# Altium footprint library WE-CMBH.PcbLib: 7 footprints
Each footprint in its own frame and in the unit in brackets; x right, y up, seen from the top. Pads: shape width x height; smd on the part's side, far side on the other; paste and mask are expansions set on the pad; w line width, h text height; cw(c..) or ccw(c..) is an arc to the next point about the centre after c.
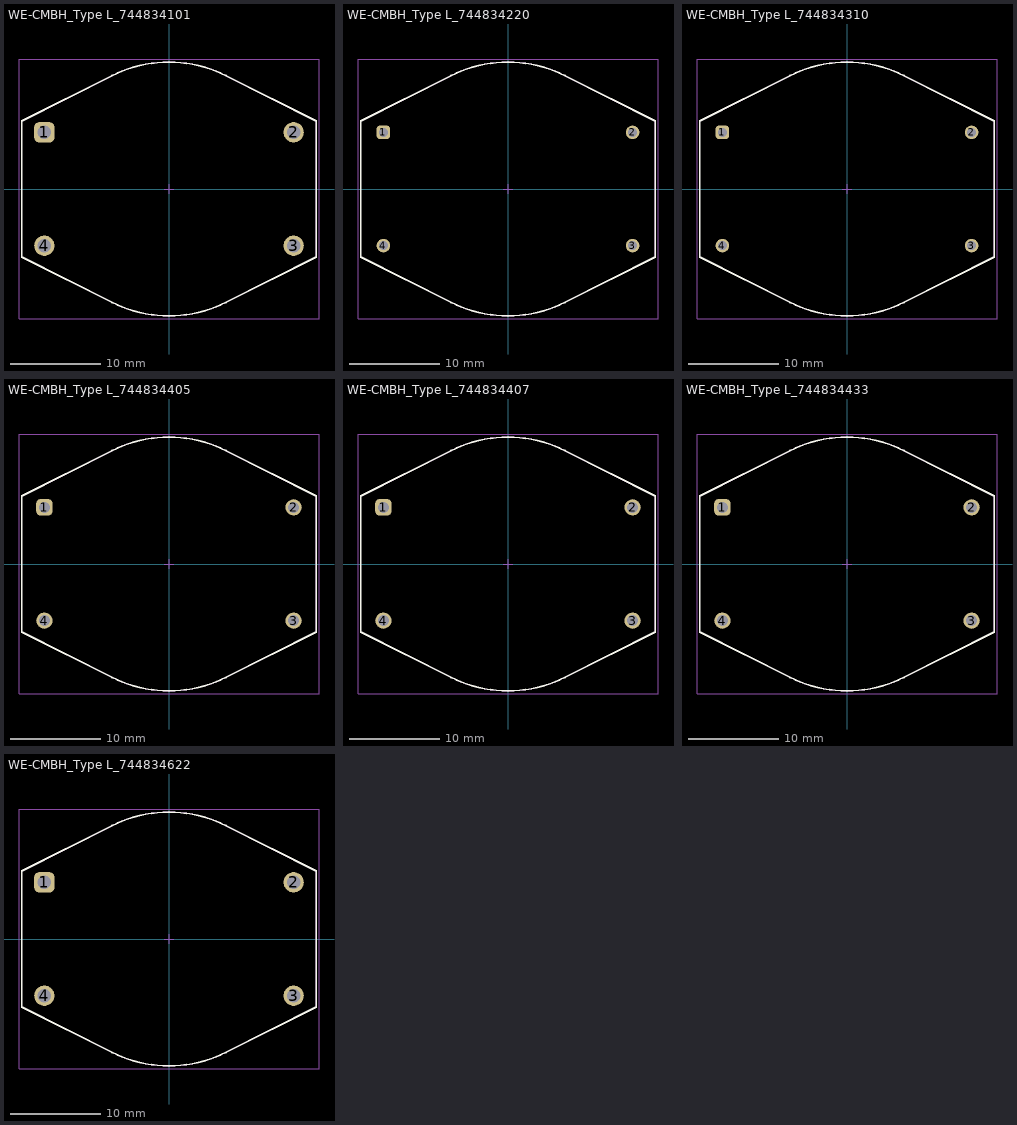
[diagram p0: the footprints below, top view; thin cyan lines are the x and y axes]

## WE-CMBH_Type L_744834101 [mm] "Common Mode Power  Line Choke, 4-Leads, body 32.5x28mm"
height 22
pads (4):
  rrect50% 2.25x2.25 hole 1.5: 1(-13.75,6.25)
  round 2.25 hole 1.5: 2(13.75,6.25) 3(13.75,-6.25) 4(-13.75,-6.25)
Top Overlay:
  lines w0.2: -16.25,-7.5 -6.288,-12.508 ccw(c0,-0.001) 6.288,-12.508 16.25,-7.5 16.25,7.5 6.288,12.508 ccw(c0,0.001) -6.287,12.509 -16.25,7.5 -16.25,-7.5
Top Designator:
  text ".Designator" at -7.498,-0.5 h1.5
Top Component Outline:
  lines w0.1: -16.25,-7.5 -16.25,7.5 -6.288,12.508 cw(c0,0.001) 6.288,12.508 16.25,7.5 16.25,-7.5 6.288,-12.508 cw(c0,-0.001) -6.287,-12.509 -16.25,-7.5
Top 3D Body:
  lines w0.1: -16.25,-7.5 -16.25,7.5 -6.288,12.508 cw(c0,0.001) 6.288,12.508 16.25,7.5 16.25,-7.5 6.288,-12.508 cw(c0,-0.001) -6.287,-12.509 -16.25,-7.5
Top Courtyard:
  lines w0.05: -0.5,0 0.5,0 ; 0,-0.5 0,0.5 ; -16.55,-14.3 -16.55,14.3 16.55,14.3 16.55,-14.3 -16.55,-14.3
3D body "744834101_pin 3,5mm.stp": height 20.1, standoff -3.4, extent -16.25,-14 16.25,14

## WE-CMBH_Type L_744834220 [mm] "Common Mode Power  Line Choke, 4-Leads, body 32.5x28mm"
height 22
pads (4):
  rrect50% 1.5x1.5 hole 1: 1(-13.75,6.25)
  round 1.5 hole 1: 2(13.75,6.25) 3(13.75,-6.25) 4(-13.75,-6.25)
Top Overlay:
  lines w0.2: -16.25,-7.5 -16.25,7.5 -6.288,12.508 cw(c0,0.001) 6.288,12.508 16.25,7.5 16.25,-7.5 6.288,-12.508 cw(c0,-0.001) -6.287,-12.509 -16.25,-7.5
Top Designator:
  text ".Designator" at -7.498,-0.5 h1.5
Top Component Outline:
  lines w0.1: -16.25,-7.5 -6.288,-12.508 ccw(c0,-0.001) 6.288,-12.508 16.25,-7.5 16.25,7.5 6.288,12.508 ccw(c0,0.001) -6.287,12.509 -16.25,7.5 -16.25,-7.5
Top 3D Body:
  lines w0.1: -16.25,-7.5 -6.288,-12.508 ccw(c0,-0.001) 6.288,-12.508 16.25,-7.5 16.25,7.5 6.288,12.508 ccw(c0,0.001) -6.287,12.509 -16.25,7.5 -16.25,-7.5
Top Courtyard:
  lines w0.05: -0.5,0 0.5,0 ; 0,-0.5 0,0.5 ; -16.55,-14.3 16.55,-14.3 16.55,14.3 -16.55,14.3 -16.55,-14.3
3D body "744834220.stp": height 20.1, standoff -3.4, extent -16.25,-14 16.25,14

## WE-CMBH_Type L_744834310 [mm] "Common Mode Power  Line Choke, 4-Leads, body 32.5x28mm"
height 22
pads (4):
  rrect50% 1.5x1.5 hole 1: 1(-13.75,6.25)
  round 1.5 hole 1: 2(13.75,6.25) 3(13.75,-6.25) 4(-13.75,-6.25)
Top Overlay:
  lines w0.2: -16.25,-7.5 -16.25,7.5 -6.288,12.508 cw(c0,0.001) 6.288,12.508 16.25,7.5 16.25,-7.5 6.288,-12.508 cw(c0,-0.001) -6.287,-12.509 -16.25,-7.5
Top Designator:
  text ".Designator" at -7.498,-0.5 h1.5
Top Component Outline:
  lines w0.1: -16.25,-7.5 -6.288,-12.508 ccw(c0,-0.001) 6.288,-12.508 16.25,-7.5 16.25,7.5 6.288,12.508 ccw(c0,0.001) -6.287,12.509 -16.25,7.5 -16.25,-7.5
Top 3D Body:
  lines w0.1: -16.25,-7.5 -6.288,-12.508 ccw(c0,-0.001) 6.288,-12.508 16.25,-7.5 16.25,7.5 6.288,12.508 ccw(c0,0.001) -6.287,12.509 -16.25,7.5 -16.25,-7.5
Top Courtyard:
  lines w0.05: -0.5,0 0.5,0 ; 0,-0.5 0,0.5 ; -16.55,-14.3 16.55,-14.3 16.55,14.3 -16.55,14.3 -16.55,-14.3
3D body "744834310.stp": height 20.1, standoff -3.4, extent -16.25,-14 16.25,14

## WE-CMBH_Type L_744834405 [mm] "Common Mode Power  Line Choke, 4-Leads, body 32.5x28mm"
height 22
pads (4):
  rrect50% 1.8x1.8 hole 1.2: 1(-13.75,6.25)
  round 1.8 hole 1.2: 2(13.75,6.25) 3(13.75,-6.25) 4(-13.75,-6.25)
Top Overlay:
  lines w0.2: -16.25,-7.5 -6.288,-12.508 ccw(c0,-0.001) 6.288,-12.508 16.25,-7.5 16.25,7.5 6.288,12.508 ccw(c0,0.001) -6.287,12.509 -16.25,7.5 -16.25,-7.5
Top Designator:
  text ".Designator" at -7.498,-0.5 h1.5
Top Component Outline:
  lines w0.1: -16.25,-7.5 -16.25,7.5 -6.288,12.508 cw(c0,0.001) 6.288,12.508 16.25,7.5 16.25,-7.5 6.288,-12.508 cw(c0,-0.001) -6.287,-12.509 -16.25,-7.5
Top 3D Body:
  lines w0.1: -16.25,-7.5 -16.25,7.5 -6.288,12.508 cw(c0,0.001) 6.288,12.508 16.25,7.5 16.25,-7.5 6.288,-12.508 cw(c0,-0.001) -6.287,-12.509 -16.25,-7.5
Top Courtyard:
  lines w0.05: -0.5,0 0.5,0 ; 0,-0.5 0,0.5 ; -16.55,-14.3 -16.55,14.3 16.55,14.3 16.55,-14.3 -16.55,-14.3
3D body "744834405_pin 3,5mm.stp": height 20.1, standoff -3.4, extent -16.25,-14 16.25,14

## WE-CMBH_Type L_744834407 [mm] "Common Mode Power  Line Choke, 4-Leads, body 32.5x28mm"
height 22
pads (4):
  rrect50% 1.8x1.8 hole 1.2: 1(-13.75,6.25)
  round 1.8 hole 1.2: 2(13.75,6.25) 3(13.75,-6.25) 4(-13.75,-6.25)
Top Overlay:
  lines w0.2: -16.25,-7.5 -16.25,7.5 -6.288,12.508 cw(c0,0.001) 6.288,12.508 16.25,7.5 16.25,-7.5 6.288,-12.508 cw(c0,-0.001) -6.287,-12.509 -16.25,-7.5
Top Designator:
  text ".Designator" at -7.498,-0.5 h1.5
Top Component Outline:
  lines w0.1: -16.25,-7.5 -6.288,-12.508 ccw(c0,-0.001) 6.288,-12.508 16.25,-7.5 16.25,7.5 6.288,12.508 ccw(c0,0.001) -6.287,12.509 -16.25,7.5 -16.25,-7.5
Top 3D Body:
  lines w0.1: -16.25,-7.5 -6.288,-12.508 ccw(c0,-0.001) 6.288,-12.508 16.25,-7.5 16.25,7.5 6.288,12.508 ccw(c0,0.001) -6.287,12.509 -16.25,7.5 -16.25,-7.5
Top Courtyard:
  lines w0.05: -0.5,0 0.5,0 ; 0,-0.5 0,0.5 ; -16.55,-14.3 16.55,-14.3 16.55,14.3 -16.55,14.3 -16.55,-14.3
3D body "744834407_pin 3,5mm.stp": height 20.1, standoff -3.4, extent -16.25,-14 16.25,14

## WE-CMBH_Type L_744834433 [mm] "Common Mode Power  Line Choke, 4-Leads, body 32.5x28mm"
height 22
pads (4):
  rrect50% 1.8x1.8 hole 1.2: 1(-13.75,6.25)
  round 1.8 hole 1.2: 2(13.75,6.25) 3(13.75,-6.25) 4(-13.75,-6.25)
Top Overlay:
  lines w0.2: -16.25,-7.5 -16.25,7.5 -6.288,12.508 cw(c0,0.001) 6.288,12.508 16.25,7.5 16.25,-7.5 6.288,-12.508 cw(c0,-0.001) -6.287,-12.509 -16.25,-7.5
Top Designator:
  text ".Designator" at -7.498,-0.5 h1.5
Top Component Outline:
  lines w0.1: -16.25,-7.5 -6.288,-12.508 ccw(c0,-0.001) 6.288,-12.508 16.25,-7.5 16.25,7.5 6.288,12.508 ccw(c0,0.001) -6.287,12.509 -16.25,7.5 -16.25,-7.5
Top 3D Body:
  lines w0.1: -16.25,-7.5 -6.288,-12.508 ccw(c0,-0.001) 6.288,-12.508 16.25,-7.5 16.25,7.5 6.288,12.508 ccw(c0,0.001) -6.287,12.509 -16.25,7.5 -16.25,-7.5
Top Courtyard:
  lines w0.05: -0.5,0 0.5,0 ; 0,-0.5 0,0.5 ; -16.55,-14.3 16.55,-14.3 16.55,14.3 -16.55,14.3 -16.55,-14.3
3D body "744834433_pin 3,5mm.stp": height 20.1, standoff -3.4, extent -16.25,-14 16.25,14

## WE-CMBH_Type L_744834622 [mm] "Common Mode Power  Line Choke, 4-Leads, body 32.5x28mm"
height 22
pads (4):
  rrect50% 2.25x2.25 hole 1.5: 1(-13.75,6.25)
  round 2.25 hole 1.5: 2(13.75,6.25) 3(13.75,-6.25) 4(-13.75,-6.25)
Top Overlay:
  lines w0.2: -16.25,-7.5 -6.288,-12.508 ccw(c0,-0.001) 6.288,-12.508 16.25,-7.5 16.25,7.5 6.288,12.508 ccw(c0,0.001) -6.287,12.509 -16.25,7.5 -16.25,-7.5
Top Designator:
  text ".Designator" at -7.498,-0.5 h1.5
Top Component Outline:
  lines w0.1: -16.25,-7.5 -16.25,7.5 -6.288,12.508 cw(c0,0.001) 6.288,12.508 16.25,7.5 16.25,-7.5 6.288,-12.508 cw(c0,-0.001) -6.287,-12.509 -16.25,-7.5
Top 3D Body:
  lines w0.1: -16.25,-7.5 -16.25,7.5 -6.288,12.508 cw(c0,0.001) 6.288,12.508 16.25,7.5 16.25,-7.5 6.288,-12.508 cw(c0,-0.001) -6.287,-12.509 -16.25,-7.5
Top Courtyard:
  lines w0.05: -0.5,0 0.5,0 ; 0,-0.5 0,0.5 ; -16.55,-14.3 -16.55,14.3 16.55,14.3 16.55,-14.3 -16.55,-14.3
3D body "744834622_pin 3,5mm.stp": height 20.1, standoff -3.4, extent -16.25,-14 16.25,14